# Altium footprint library EXTRA.PcbLib: 25 footprints (part 2 of 2)
Each footprint in its own frame and in the unit in brackets; x right, y up, seen from the top. Pads: shape width x height; smd on the part's side, far side on the other; paste and mask are expansions set on the pad; w line width, h text height; cw(c..) or ccw(c..) is an arc to the next point about the centre after c.
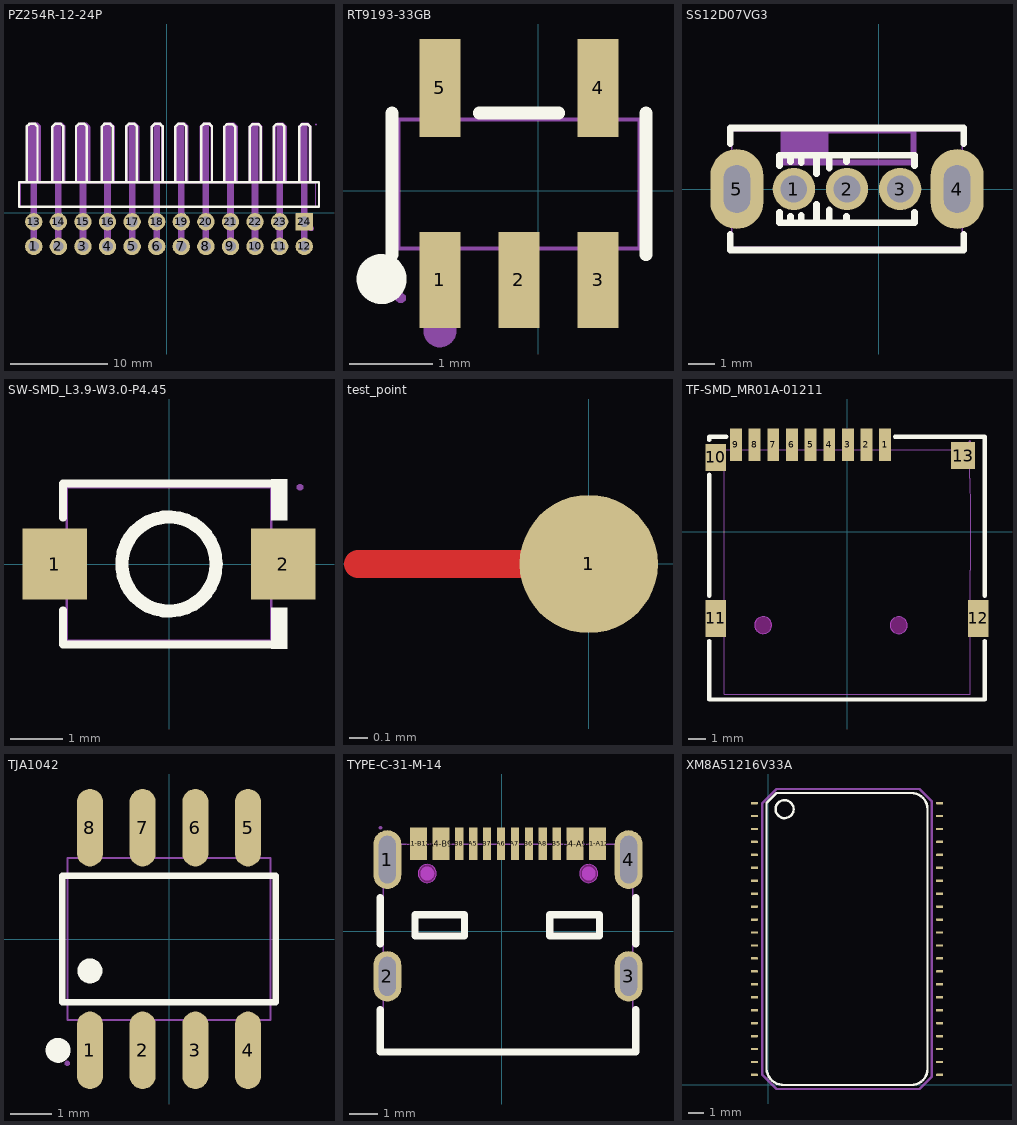
[diagram p1: the footprints below, top view; thin cyan lines are the x and y axes]

## PZ254R-12-24P [mm] "2X12P 弯针"
pads (24):
  round 1.8 hole 1.1: 1(-13.716,-3.476) 2(-11.176,-3.476) 3(-8.636,-3.476) 4(-6.096,-3.476) 5(-3.556,-3.476) 6(-1.016,-3.476) 7(1.524,-3.476) 8(4.064,-3.476) 9(6.604,-3.476) 10(9.144,-3.476) 11(11.684,-3.476) 12(14.224,-3.476) 13(-13.716,-0.936) 14(-11.176,-0.936) 15(-8.636,-0.936) 16(-6.096,-0.936) 17(-3.556,-0.936) 18(-1.016,-0.936) 19(1.524,-0.936) 20(4.064,-0.936) 21(6.604,-0.936) 22(9.144,-0.936) 23(11.684,-0.936)
  rect 1.778x1.8 hole 1.1: 24(14.224,-0.936)
Top Overlay:
  lines w0.254: -14.449,3.174 -14.449,8.894 -14.169,9.174 -13.585,9.174 -13.331,8.92 -13.331,3.174 ; -11.791,3.174 -11.791,8.894 -11.512,9.174 -10.928,9.174 -10.674,8.92 -10.674,3.174 ; -9.351,3.164 -9.351,8.885 -9.072,9.164 -8.487,9.164 -8.233,8.91 -8.233,3.164 ; -6.694,3.164 -6.694,8.885 -6.414,9.164 -5.83,9.164 -5.576,8.91 -5.576,3.164 ; -4.179,3.174 -4.179,8.894 -3.899,9.174 -3.315,9.174 -3.061,8.92 -3.061,3.174 ; -1.521,3.174 -1.521,8.894 -1.242,9.174 -0.658,9.174 -0.404,8.92 -0.404,3.174 ; 0.919,3.164 0.919,8.885 1.198,9.164 1.783,9.164 2.037,8.91 2.037,3.164 ; 3.576,3.164 3.576,8.885 3.856,9.164 4.44,9.164 4.694,8.91 4.694,3.164 ; 5.959,3.154 5.959,8.875 6.238,9.154 6.822,9.154 7.076,8.9 7.076,3.154 ; 8.616,3.154 8.616,8.875 8.896,9.154 9.48,9.154 9.734,8.9 9.734,3.154 ; 11.056,3.144 11.056,8.864 11.336,9.144 11.92,9.144 12.174,8.89 12.174,3.144 ; 13.714,3.144 13.714,8.864 13.993,9.144 14.577,9.144 14.831,8.89 14.831,3.144 ; -15.24,0.604 -15.24,3.144 15.654,3.144 15.748,3.144 15.748,0.604 -15.24,0.604
Mechanical 6:
  drawing of 13 lines, arcs and shapes, not listed
Mechanical 15:
  drawing of 41 lines, arcs and shapes, not listed
3D body "2x12p.stp": height 5, standoff -3, extent -15.09,-3.903 15.4,8.997

## RT9193-33GB [mm] "5vת3v3-LDOоƬ"
pads (5):
  rect 0.49x1.157 smd: 1(-1.181,-1.069) 2(-0.231,-1.069) 3(0.719,-1.069)
  rect 0.49x1.175 smd: 4(0.719,1.238) 5(-1.181,1.238)
Top Overlay:
  circle w0.3: c-1.882,-1.058 r0.15
  lines w0.152: -1.757,-0.767 -1.757,0.936 ; -0.707,0.936 0.246,0.936 ; 1.295,-0.767 1.295,0.936
Mechanical 6:
  circle w0.2: c-1.181,-1.678 r0.1
Mechanical 15:
  region: -1.591,-1.285 -1.592,-1.261 -1.627,-1.227 -1.676,-1.227 -1.71,-1.261 -1.711,-1.285 -1.71,-1.31 -1.675,-1.344 -1.626,-1.344 -1.592,-1.31
  region: -1.356,0.825 -1.356,1.095 -1.006,1.095 -1.006,0.825
  region: -1.356,1.085 -1.356,1.485 -1.006,1.485 -1.006,1.085
  region: 0.544,0.825 0.544,1.095 0.894,1.095 0.894,0.825
  region: 0.544,1.085 0.544,1.485 0.894,1.485 0.894,1.085
  region: 0.544,-0.925 0.544,-0.655 0.894,-0.655 0.894,-0.925
  region: 0.544,-1.315 0.544,-0.915 0.894,-0.915 0.894,-1.315
  region: -0.406,-0.925 -0.406,-0.655 -0.056,-0.655 -0.056,-0.925
  region: -0.406,-1.315 -0.406,-0.915 -0.056,-0.915 -0.056,-1.315
  region: -1.356,-0.925 -1.356,-0.655 -1.006,-0.655 -1.006,-0.925
  region: -1.356,-1.315 -1.356,-0.915 -1.006,-0.915 -1.006,-1.315
  lines w0.051: -1.681,-0.69 1.219,-0.69 1.219,0.86 -1.681,0.86 -1.681,-0.69
3D body "3V3.stp": height 1.19, standoff -0.21, extent -1.681,-1.418 1.219,1.587
3D body: height 5, standoff -3, extent 0,3.81 0,3.81

## SS12D07VG3 [mm] "直插拨片开关"
pads (5):
  round 1.6 hole 1: 1(-3.2,0.014) 2(-1.2,0.014) 3(0.8,0.014)
  oval 2x3 hole 1 slot 1.8 at 90 deg: 4(2.95,0.014) 5(-5.35,0.014)
Top Overlay:
  lines w0.254: -5.6,-1.701 -5.6,-2.286 3.2,-2.286 3.2,-1.701 ; -5.6,1.729 -5.6,2.314 3.2,2.314 3.2,1.729 ; -3.74,-0.864 -3.74,-1.256 1.34,-1.256 1.34,-0.864 ; -3.74,0.892 -3.74,1.284 1.34,1.284 1.34,0.892 ; -3.324,-1.256 -3.324,-1.01 ; -3.324,1.038 -3.324,1.284 ; -2.925,-1.256 -2.925,-0.98 ; -2.925,1.008 -2.925,1.284 ; -2.344,-1.256 -2.344,-0.559 ; -2.344,0.587 -2.344,1.284 ; -1.873,-1.256 -1.873,-0.767 ; -1.873,0.795 -1.873,1.284 ; -1.219,-1.256 -1.219,-1.017 ; -1.219,1.045 -1.219,1.284
Mechanical 6:
  region: -1.9,2.114 -1.9,2.314 1.2,2.314 1.2,2.114
  region: -3.7,2.314 -3.7,0.914 1.3,0.914 1.4,0.914 1.4,1.014 1.4,2.314 1.2,2.314 1.2,1.114 -1.9,1.114 -1.9,2.314
Mechanical 15:
  region: 2.75,-0.586 2.75,0.614 3.15,0.614 3.15,-0.586
  region: -5.55,-0.586 -5.55,0.614 -5.15,0.614 -5.15,-0.586
  region: -2.95,0.164 -2.95,-0.136 -3.45,-0.136 -3.45,0.164
  region: 1.05,0.164 1.05,-0.136 0.55,-0.136 0.55,0.164
  region: -0.95,0.164 -0.95,-0.136 -1.45,-0.136 -1.45,0.164
  region: -5.49,-2.186 -5.49,-2.161 -5.525,-2.126 -5.575,-2.126 -5.61,-2.161 -5.61,-2.186 -5.61,-2.211 -5.575,-2.246 -5.525,-2.246 -5.49,-2.211
  lines w0.051: -5.55,-2.186 3.15,-2.186 3.15,2.214 -5.55,2.214 -5.55,-2.186
3D body "123.stp": height 8.7, standoff -2.8, extent -5.67,-2.428 3.13,2.173

## SW-SMD_L3.9-W3.0-P4.45 [mm] "贴片轻触开关"
pads (2):
  rect 1.23x1.36 smd: 1(-2.185,0) 2(2.185,0)
Top Overlay:
  circle w0.254: c0,0 r0.9
  region: 1.95,-1.617 1.95,-0.832 2.255,-0.832 2.255,-1.617
  region: 1.95,1.617 1.95,0.832 2.255,0.832 2.255,1.617
  lines w0.152: -2.026,-0.883 -2.026,-1.541 2.026,-1.541 ; -2.026,0.883 -2.026,1.541 2.026,1.541
Mechanical 15:
  region: 2.56,1.465 2.56,1.49 2.525,1.525 2.475,1.525 2.44,1.49 2.44,1.465 2.44,1.44 2.475,1.405 2.525,1.405 2.56,1.44
  region: 2.5,0.65 2.5,-0.65 1.6,-0.65 1.6,0.65
  region: -2.5,0.65 -2.5,-0.65 -1.6,-0.65 -1.6,0.65
  lines w0.051: -1.95,-1.465 1.95,-1.465 1.95,1.465 -1.95,1.465 -1.95,-1.465
3D body "SW.stp": height 1.95, standoff 0, extent -2.4,-1.45 2.4,1.45

## test_point [mil] "测量点"
pads (1):
  round 30 smd: 1(0,0)
Top Layer:
  lines w6: -50,0 -15,0

## TF-SMD_MR01A-01211 [mm] "SD卡卡座"
height 0.508
pads (13):
  rect 0.7x1.9 smd paste+0 mask+0.051: 1(2.25,5.125) 2(1.15,5.125) 3(0.05,5.125) 4(-1.05,5.125) 5(-2.15,5.125) 6(-3.25,5.125) 7(-4.35,5.125) 8(-5.45,5.125) 9(-6.55,5.125)
  rect 1.2x1.6 smd paste+0 mask+0.051: 10(-7.75,4.375)
  rect 1.2x2.2 smd paste+0 mask+0.051: 11(-7.75,-5.125) 12(7.75,-5.125)
  rect 1.4x1.6 smd paste+0 mask+0.051: 13(6.85,4.475)
Top Overlay:
  lines w0.254: -8.128,-6.456 -8.128,-9.906 8.128,-9.906 8.128,-6.456 ; -8.128,-3.794 -8.128,3.344 ; -8.128,5.406 -8.128,5.588 -7.131,5.588 ; 2.831,5.588 8.128,5.588 8.128,-3.794
Keep-Out Layer:
  board cut-out: 3.55,-5.527 3.55,-5.428 3.474,-5.244 3.333,-5.104 3.15,-5.027 2.951,-5.027 2.767,-5.104 2.626,-5.244 2.55,-5.428 2.55,-5.527 2.55,-5.627 2.626,-5.811 2.767,-5.951 2.951,-6.027 3.15,-6.027 3.333,-5.951 3.474,-5.811 3.55,-5.627
  board cut-out: -4.45,-5.525 -4.45,-5.425 -4.526,-5.242 -4.667,-5.101 -4.85,-5.025 -5.049,-5.025 -5.233,-5.101 -5.374,-5.242 -5.45,-5.425 -5.45,-5.525 -5.45,-5.624 -5.374,-5.808 -5.233,-5.949 -5.049,-6.025 -4.85,-6.025 -4.667,-5.949 -4.526,-5.808 -4.45,-5.624
Mechanical 1:
  circle w0.005: c3.05,-5.527 r0.5
  circle w0.005: c-4.95,-5.525 r0.5
Mechanical 15:
  region: 7.275,4.975 7.275,3.975 6.425,3.975 6.425,4.975
  region: -8.086,4.875 -7.236,4.875 -7.236,3.875 -8.086,3.875
  region: 7.2,-4.5 8.05,-4.5 8.05,-5.7 7.2,-5.7
  region: -8.086,-4.525 -7.236,-4.525 -7.236,-5.725 -8.086,-5.725
  region: 2.1,5.312 2.4,5.312 2.4,4.812 2.1,4.812
  region: 1,5.312 1.3,5.312 1.3,4.812 1,4.812
  region: -0.1,5.312 0.2,5.312 0.2,4.812 -0.1,4.812
  region: -1.2,5.312 -0.9,5.312 -0.9,4.812 -1.2,4.812
  region: -2.3,5.312 -2,5.312 -2,4.812 -2.3,4.812
  region: -3.4,5.312 -3.1,5.312 -3.1,4.812 -3.4,4.812
  region: -4.5,5.312 -4.2,5.312 -4.2,4.812 -4.5,4.812
  region: -5.6,5.312 -5.3,5.312 -5.3,4.812 -5.6,4.812
  region: -6.7,5.312 -6.4,5.312 -6.4,4.812 -6.7,4.812
  region: 7.314,5.314 7.314,5.338 7.279,5.374 7.23,5.374 7.194,5.338 7.194,5.314 7.194,5.289 7.23,5.254 7.279,5.254 7.314,5.289
  lines w0.051: -7.239,-9.599 7.261,-9.599 7.274,-2.272 7.267,1.328 7.251,3.14 7.261,4.826 3.769,4.826 0.1,4.826 -7.239,4.826 -7.239,-9.599
3D body "SD.stp": height 2.05, standoff -0.6, extent -8.128,-9.594 8.022,5.406

## TJA1042 [mm] "CAN PHY芯片，最高速度1M"
pads (8):
  oval 0.63x1.865 smd: 1(-1.905,-2.682) 2(-0.635,-2.682) 3(0.635,-2.682) 4(1.905,-2.682) 5(1.905,2.682) 6(0.635,2.682) 7(-0.635,2.682) 8(-1.905,2.682)
Top Overlay:
  circle w0.3: c-1.905,-0.769 r0.15
  circle w0.3: c-2.672,-2.682 r0.15
  lines w0.152: -2.576,-1.521 -2.576,1.521 2.576,1.521 2.576,-1.521 -2.576,-1.521
Mechanical 15:
  region: -2.39,-3 -2.39,-2.975 -2.425,-2.94 -2.475,-2.94 -2.51,-2.975 -2.51,-3 -2.51,-3.025 -2.475,-3.06 -2.425,-3.06 -2.39,-3.025
  region: 1.695,1.94 1.695,2.175 2.115,2.175 2.115,1.94
  region: 1.695,2.165 1.695,3 2.115,3 2.115,2.165
  region: 0.425,1.94 0.425,2.175 0.845,2.175 0.845,1.94
  region: 0.425,2.165 0.425,3 0.845,3 0.845,2.165
  region: -0.845,1.94 -0.845,2.175 -0.425,2.175 -0.425,1.94
  region: -0.845,2.165 -0.845,3 -0.425,3 -0.425,2.165
  region: -2.115,1.94 -2.115,2.175 -1.695,2.175 -1.695,1.94
  region: -2.115,2.165 -2.115,3 -1.695,3 -1.695,2.165
  region: 1.695,-2.175 1.695,-1.94 2.115,-1.94 2.115,-2.175
  region: 1.695,-3 1.695,-2.165 2.115,-2.165 2.115,-3
  region: 0.425,-2.175 0.425,-1.94 0.845,-1.94 0.845,-2.175
  region: 0.425,-3 0.425,-2.165 0.845,-2.165 0.845,-3
  region: -0.845,-2.175 -0.845,-1.94 -0.425,-1.94 -0.425,-2.175
  region: -0.845,-3 -0.845,-2.165 -0.425,-2.165 -0.425,-3
  region: -2.115,-2.175 -2.115,-1.94 -1.695,-1.94 -1.695,-2.175
  region: -2.115,-3 -2.115,-2.165 -1.695,-2.165 -1.695,-3
  lines w0.051: -2.45,-1.95 -2.45,1.95 2.45,1.95 2.45,-1.95 -2.45,-1.95
3D body "123.stp": height 1.67, standoff -0.05, extent -2.39,-3 2.425,3

## TYPE-C-31-M-14 [mm] "TYPE-C插头"
pads (16):
  oval 1x2.1 hole 0.6 slot 1.7 at 90 deg paste+0 mask+0.05: 1(-4.103,2.57) 4(4.537,2.57)
  oval 1x1.8 hole 0.6 slot 1.4 at 90 deg paste+0 mask+0.05: 2(-4.103,-1.61) 3(4.537,-1.61)
  rect 0.6x1.15 smd paste-100 mask+0.05: A1-B12(-2.983,3.134) A4-B9(-2.183,3.134) B1-A12(3.417,3.134) B4-A9(2.617,3.134)
  rect 0.3x1.15 smd paste-100 mask+0.05: A5(-1.033,3.134) A6(-0.033,3.134) A7(0.467,3.134) A8(1.467,3.134) B5(1.967,3.134) B6(0.967,3.134) B7(-0.533,3.134) B8(-1.533,3.134)
Top Overlay:
  lines w0.254: -4.355,-2.794 -4.355,-4.318 4.789,-4.318 4.789,-2.794 ; -4.355,-0.445 -4.355,1.206 ; 4.789,-0.445 4.789,1.206 ; -3.113,-0.168 -1.335,-0.168 -1.335,0.594 -3.113,0.594 -3.113,-0.168 ; 1.713,-0.168 3.491,-0.168 3.491,0.594 1.713,0.594 1.713,-0.168
Top Paste:
  drawing of 16 lines, arcs and shapes, not listed
Keep-Out Layer:
  board cut-out: 3.432,2.069 3.432,2.134 3.383,2.254 3.291,2.345 3.172,2.395 3.042,2.395 2.923,2.345 2.832,2.254 2.782,2.134 2.782,2.07 2.782,2.005 2.832,1.885 2.923,1.794 3.042,1.745 3.172,1.745 3.291,1.794 3.383,1.885 3.432,2.005
  board cut-out: -2.348,2.069 -2.348,2.134 -2.397,2.254 -2.489,2.345 -2.608,2.395 -2.738,2.395 -2.857,2.345 -2.948,2.254 -2.998,2.134 -2.998,2.07 -2.998,2.005 -2.949,1.885 -2.857,1.794 -2.738,1.745 -2.608,1.745 -2.489,1.794 -2.397,1.885 -2.348,2.005
Mechanical 1:
  circle w0.005: c3.107,2.069 r0.325
  circle w0.005: c-2.673,2.069 r0.325
Mechanical 6:
  circle w0.25: c3.107,2.069 r0.125
  circle w0.25: c-2.673,2.069 r0.125
Mechanical 15:
  region: -4.283,3.71 -4.283,3.734 -4.318,3.77 -4.368,3.77 -4.403,3.735 -4.403,3.71 -4.403,3.685 -4.368,3.65 -4.318,3.65 -4.283,3.685
  region: 4.387,3.118 4.687,3.118 4.687,2.018 4.387,2.018
  region: -4.253,3.118 -3.953,3.118 -3.953,2.018 -4.253,2.018
  region: 4.387,-1.21 4.687,-1.21 4.687,-2.01 4.387,-2.01
  region: -4.253,-1.21 -3.953,-1.21 -3.953,-2.01 -4.253,-2.01
  region: -1.633,3.498 -1.433,3.498 -1.433,2.748 -1.633,2.748
  region: -1.133,3.498 -0.933,3.498 -0.933,2.748 -1.133,2.748
  region: -0.633,3.498 -0.433,3.498 -0.433,2.748 -0.633,2.748
  region: -0.133,3.498 0.067,3.498 0.067,2.748 -0.133,2.748
  region: 0.367,3.498 0.567,3.498 0.567,2.748 0.367,2.748
  region: 0.867,3.498 1.067,3.498 1.067,2.748 0.867,2.748
  region: 1.367,3.498 1.567,3.498 1.567,2.748 1.367,2.748
  region: 1.867,3.498 2.067,3.498 2.067,2.748 1.867,2.748
  region: 2.392,3.498 2.842,3.498 2.842,2.748 2.392,2.748
  region: 3.192,3.498 3.642,3.498 3.642,2.748 3.192,2.748
  region: -2.408,3.498 -1.958,3.498 -1.958,2.748 -2.408,2.748
  region: -3.208,3.498 -2.758,3.498 -2.758,2.748 -3.208,2.748
  lines w0.051: -4.253,-4.232 -4.253,3.118 4.687,3.118 4.687,-4.232 -4.253,-4.232
Multi-Layer keep-out:
  region: 3.432,2.069 3.432,2.134 3.383,2.254 3.291,2.345 3.172,2.395 3.042,2.395 2.923,2.345 2.832,2.254 2.782,2.134 2.782,2.07 2.782,2.005 2.832,1.885 2.923,1.794 3.042,1.745 3.172,1.745 3.291,1.794 3.383,1.885 3.432,2.005
  region: -2.348,2.069 -2.348,2.134 -2.397,2.254 -2.489,2.345 -2.608,2.395 -2.738,2.395 -2.857,2.345 -2.948,2.254 -2.998,2.134 -2.998,2.07 -2.998,2.005 -2.949,1.885 -2.857,1.794 -2.738,1.745 -2.608,1.745 -2.489,1.794 -2.397,1.885 -2.348,2.005
3D body "TYPEC_3D.stp": height 3.2, standoff -0.9, extent -4.343,-4.061 4.597,3.839

## XM8A51216V33A [mm] "1M sramоƬ"
pads (44):
  rrect50% 0.45x0.15 smd: 1(-0.889,17.78) 2(-0.889,16.964) 3(-0.889,16.147) 4(-0.889,15.331) 5(-0.889,14.514) 6(-0.889,13.698) 7(-0.889,12.881) 8(-0.889,12.065) 9(-0.889,11.249) 10(-0.889,10.432) 11(-0.889,9.616) 12(-0.889,8.799) 13(-0.889,7.983) 14(-0.889,7.166) 15(-0.889,6.35) 16(-0.889,5.534) 17(-0.889,4.717) 18(-0.889,3.901) 19(-0.889,3.084) 20(-0.889,2.268) 21(-0.889,1.451) 22(-0.889,0.635) 23(10.795,0.635) 24(10.795,1.451) 25(10.795,2.268) 26(10.795,3.084) 27(10.795,3.901) 28(10.795,4.717) 29(10.795,5.534) 30(10.795,6.35) 31(10.795,7.166) 32(10.795,7.983) 33(10.795,8.799) 34(10.795,9.616) 35(10.795,10.432) 36(10.795,11.249) 37(10.795,12.065) 38(10.795,12.881) 39(10.795,13.698) 40(10.795,14.514) 41(10.795,15.331) 42(10.795,16.147) 43(10.795,16.964) 44(10.795,17.78)
Top Overlay:
  circle w0.152: c1.016,17.399 r0.568
  lines w0.152: 0.889,0 9.017,0 ccw(c9.017,1.016) 10.033,1.016 10.033,17.399 ccw(c9.017,17.399) 9.017,18.415 0.508,18.415 -0.127,17.78 -0.127,1.016 ccw(c0.953,1.079) 1.016,0
Mechanical 1:
  lines w0.152: -0.381,0.635 -0.381,17.78 -0.254,17.907 0.381,18.542 0.508,18.669 9.525,18.669 10.287,17.907 10.287,17.653 10.287,0.508 9.525,-0.254 0.508,-0.254 -0.381,0.635
3D body "SRAM.stp": height 1.1, standoff 0, extent -1.018,0.015 10.795,18.415